# Altium footprint library LEDC160X80X50L30N.PcbLib: 1 footprints
Each footprint in its own frame and in the unit in brackets; x right, y up, seen from the top. Pads: shape width x height; smd on the part's side, far side on the other; paste and mask are expansions set on the pad; w line width, h text height; cw(c..) or ccw(c..) is an arc to the next point about the centre after c.
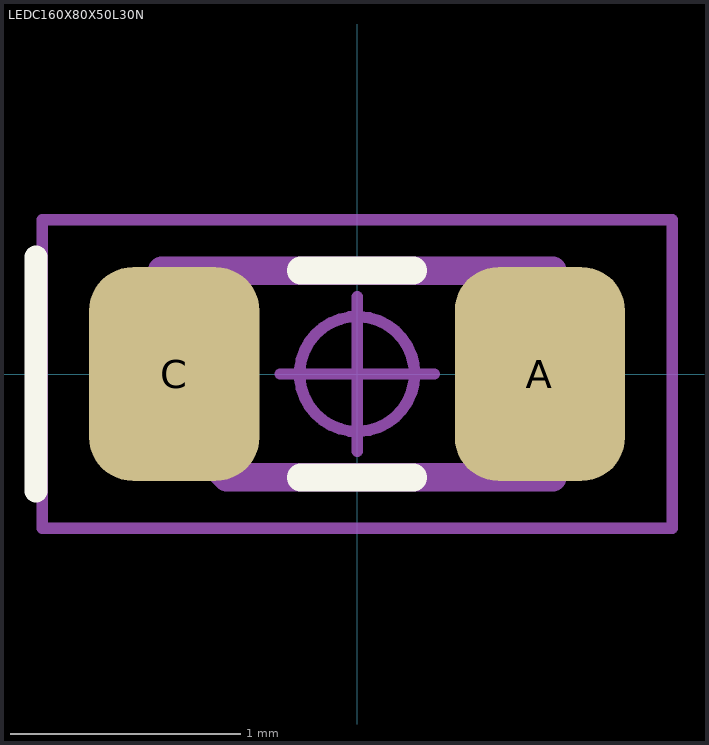
[diagram p0: the footprint, top view; thin cyan lines are the x and y axes]

## LEDC160X80X50L30N [mm] "LED, Chip; 1.60 mm L X 0.80 mm W X 0.50 mm H body"
height 0.5
pads (2):
  rrect51% 0.74x0.93 smd: A(0.795,0) C(-0.795,0)
Top Overlay:
  lines w0.1: -1.397,-0.508 -1.397,0.508
  lines w0.12: -0.245,-0.45 0.245,-0.45 ; -0.245,0.45 0.245,0.45
Mechanical 3:
  lines w0.12: -0.85,-0.166 -0.566,-0.45 0.85,-0.45 0.85,0.45 -0.85,0.45 -0.85,-0.166
Mechanical 5:
  lines w0.025: -0.8,-0.4 -0.5,-0.4 -0.5,0.4 -0.8,0.4 ; -0.8,-0.4 -0.8,0.4 ; -0.8,-0.4 -0.8,0.4 ; -0.8,-0.4 0.8,-0.4 ; -0.8,0.4 0.8,0.4 ; 0.8,-0.4 0.8,0.4 ; 0.8,-0.4 0.5,-0.4 0.5,0.4 0.8,0.4 ; 0.8,-0.4 0.8,0.4
Mechanical 7:
  circle w0.05: c0,0 r0.25
  lines w0.05: -0.335,0 0.335,0 ; 0,-0.335 0,0.335 ; -1.37,-0.67 -1.37,0.67 1.37,0.67 1.37,-0.67 -1.37,-0.67
Mechanical 9:
  text "'.Designator'" at -5.207,-0.127 h1
3D body "LEDC160X80X50L30.STEP": height 0.85, standoff 0, extent -0.8,-0.4 0.8,0.4
3D body: height 1.04, standoff 0, extent -1.37,-0.67 1.37,0.67